# Altium schematic symbol library Schlib1.schlib: 11 symbols
Pins are listed as number, name and electrical type; pins without a type are passive.

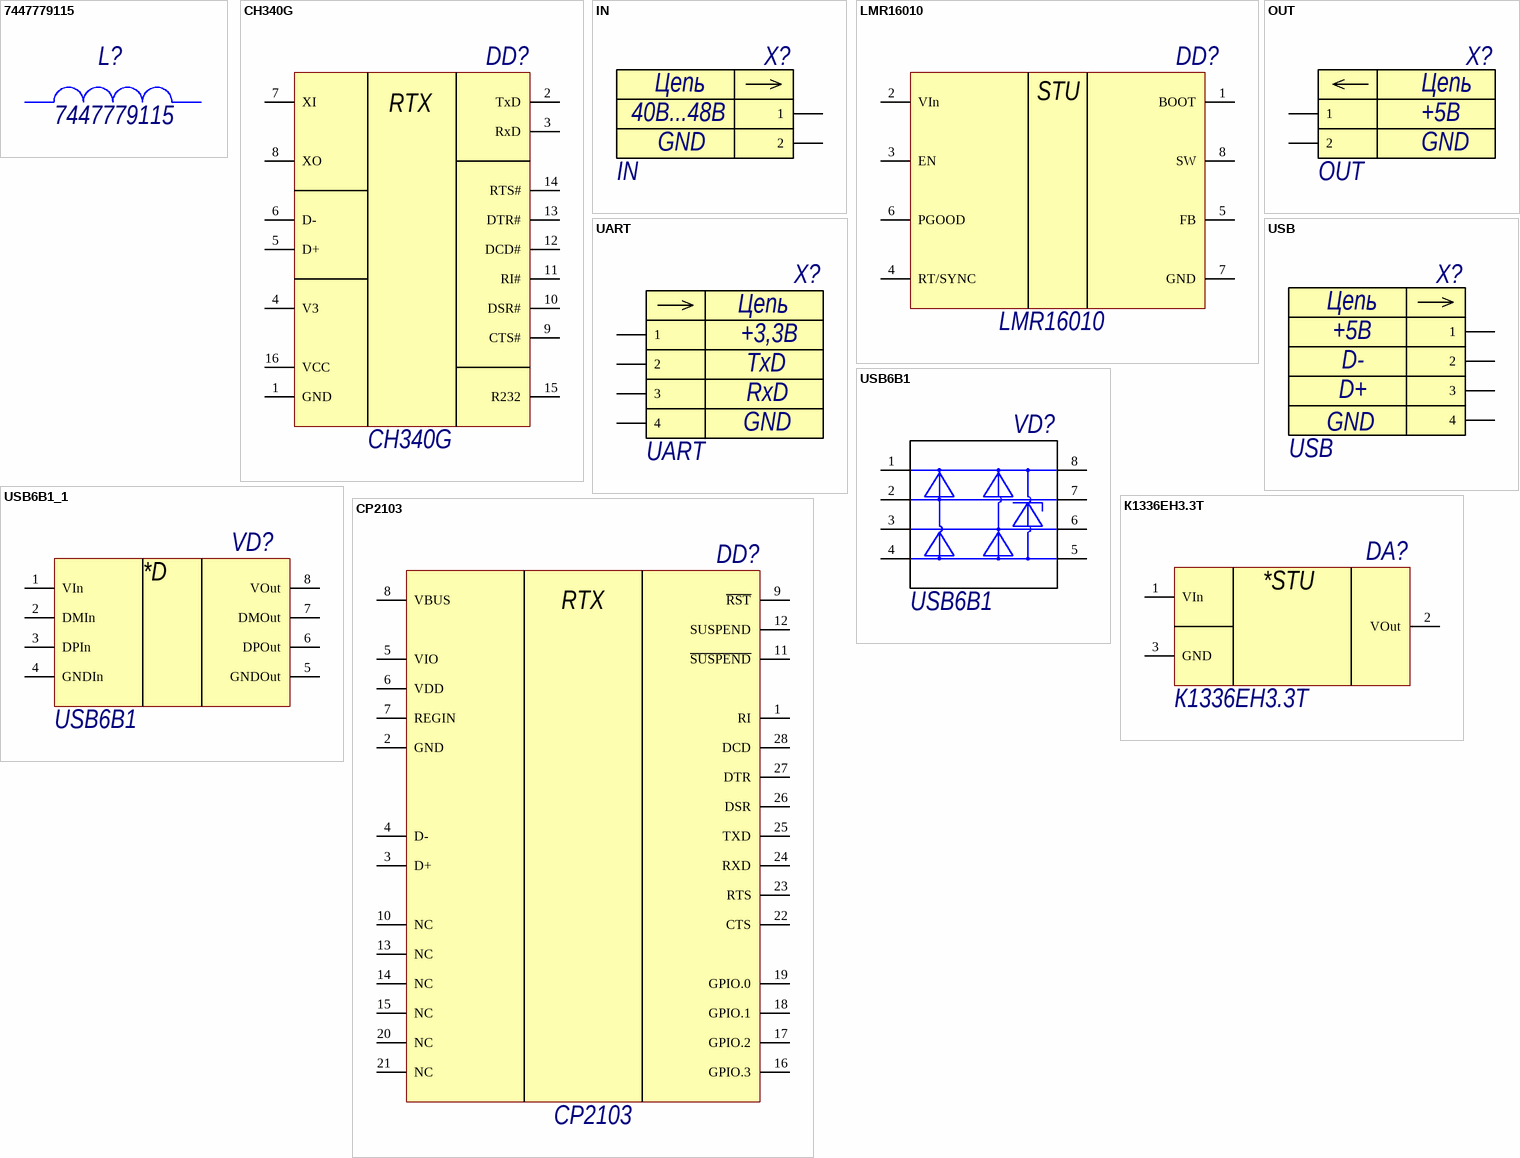
[diagram p0: symbols 7447779115 to СP2103]

## 7447779115
designator L?
I: 1,6А; L: 15мк; Name: 7447779115
footprint 747779115
pins: 1, 2

## CH340G
designator DD?  WTF: RTX
Create: DeathSpeaker
footprint CH340G
pins: 1 GND, 2 TxD, 3 RxD, 4 V3, 5 D+, 6 D-, 7 XI, 8 XO, 9 CTS#, 10 DSR#, 11 RI#, 12 DCD#, 13 DTR#, 14 RTS#, 15 R232, 16 VCC

## IN
designator X?  U: 40В...48В
Create: DeathSpeaker; GND: GND
footprint PWL-2R (Connector; Header; 2 Position)
pins: 1, 2
text: Цепь

## LMR16010
designator DD?
Vin: 4,3В...60В; Vout: 1В...50В
footprint LMR16010 (DD?)
pins: 1 BOOT, 2 VIn, 3 EN, 4 RT/SYNC, 5 FB, 6 PGOOD, 7 GND, 8 SW
text: STU

## OUT
designator X?  U: +5В
Create: DeathSpeaker; GND: GND
footprint PWL-2R (Connector; Header; 2 Position)
pins: 1, 2
text: Цепь

## UART
designator X?  In: TxD  Out: RxD  U: +3,3В
Create: DeathSpeaker; GND: GND
footprint UART
pins: 1, 2, 3, 4
text: Цепь

## USB
designator X?  U: +5В  Out: D-  In: D+
Create: DeathSpeaker; GND: GND
footprint USB
pins: 1, 2, 3, 4
text: Цепь

## USB6B1
designator VD?
footprint USB6B1 (VD?)
pins: 1, 2, 3, 4, 5, 6, 7, 8

## USB6B1_1
designator VD?, comment USB6B1
footprint USB6B1 (VD?)
pins: 1 VIn, 2 DMIn, 3 DPIn, 4 GNDIn, 5 GNDOut, 6 DPOut, 7 DMOut, 8 VOut
text: *D

## К1336ЕН3.3Т
designator DA?, comment *STU  Number: К1336ЕН3.3Т
InU: 3.9...12В; Power: 0.3Вт; OutI: 300мА; OutU: 3.3В
footprint 4601.3-1
pins: 1 VIn, 2 VOut, 3 GND

## СP2103
designator DD?, comment CP2103
footprint CP2103 (DD?)
pins: 1 RI, 2 GND, 3 D+, 4 D-, 5 VIO, 6 VDD, 7 REGIN, 8 VBUS, 9 ~{RST}, 10 NC, 11 ~{SUSPEND}, 12 SUSPEND, 13 NC, 14 NC, 15 NC, 16 GPIO.3, 17 GPIO.2, 18 GPIO.1, 19 GPIO.0, 20 NC, 21 NC, 22 CTS, 23 RTS, 24 RXD, 25 TXD, 26 DSR, 27 DTR, 28 DCD
text: RTX